# EAGLE library part LSM9DS1TR_IMU (library quadparts_michael)
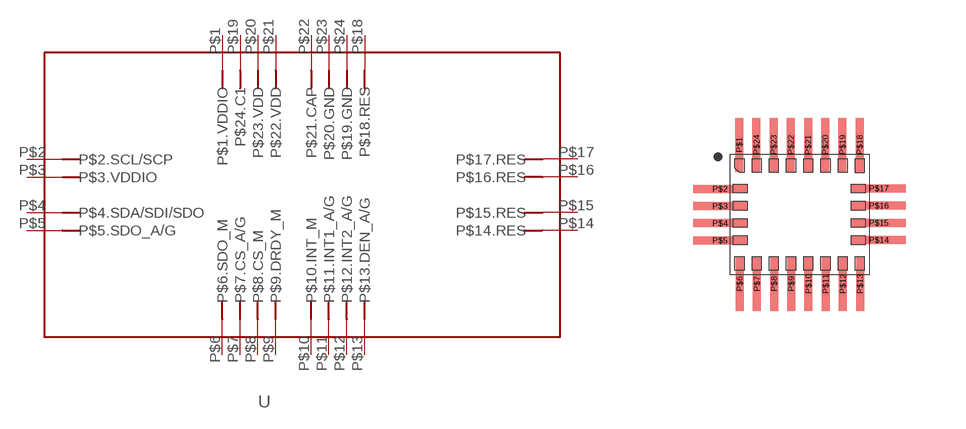
[diagram p0: symbol with the pads of IMU; footprint IMU]

Designator prefix -

## LSM9DS1TR_IMU-9_AXIS (CREATOR: Michael Bagherpour; DIST: Digikey; DISTPN: 497-14946-1-ND; MFR: STMicroelectronics; MPN: LSM9DS1TR; REVIEWER: group 4)  [IMU]
P$1  P$1.VDDIO
P$2  P$2.SCL/SCP
P$3  P$3.VDDIO
P$4  P$4.SDA/SDI/SDO
P$5  P$5.SDO_A/G
P$6  P$6.SDO_M
P$7  P$7.CS_A/G
P$8  P$8.CS_M
P$9  P$9.DRDY_M
P$10  P$10.INT_M
P$11  P$11.INT1_A/G
P$12  P$12.INT2_A/G
P$13  P$13.DEN_A/G
P$14  P$14.RES
P$15  P$15.RES
P$16  P$16.RES
P$17  P$17.RES
P$18  P$18.RES
P$19  P$24.C1
P$20  P$23.VDD
P$21  P$22.VDD
P$22  P$21.CAP
P$23  P$20.GND
P$24  P$19.GND

## Footprint IMU (pad centres in mm)
smd 0.2 x 1.35: P$1 -1.51,1.74; P$6 -1.5,-1.74; P$7 -1.07,-1.74; P$8 -0.64,-1.74; P$9 -0.21,-1.74; P$10 0.22,-1.74; P$11 0.65,-1.74; P$12 1.08,-1.74; P$13 1.51,-1.74; P$18 1.5,1.74; P$19 1.07,1.74; P$20 0.64,1.74; P$21 0.21,1.74; P$22 -0.22,1.74; P$23 -0.65,1.74; P$24 -1.08,1.74
smd 1.35 x 0.2: P$2 -1.99,0.64; P$3 -1.99,0.21; P$4 -1.99,-0.22; P$5 -1.99,-0.65; P$14 1.98,-0.64; P$15 1.98,-0.21; P$16 1.98,0.22; P$17 1.98,0.65